# Altium schematic symbol library 1886BE5Y.Schlib: 1 symbol
Pins are listed as number, name and electrical type; pins without a type are passive.

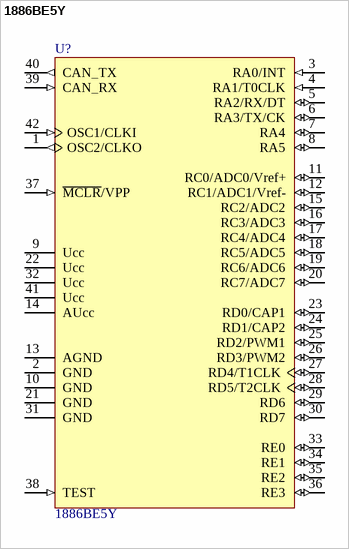
[diagram p0: symbol 1886BE5Y]

## 1886BE5Y
designator U?
Микроконтроллер с CAN; Package Information: Latest Revision: 1997; Published: 8-Jun-2000; Revision: 17-Jul-2002: Re-released for DXP Platform.; Datasheet: Latest Revision: 1997; Package Reference: JW40; Publisher: Altium Limited
footprint H14.42-1B
pins: 1 OSC2/CLKO (out), 2 GND (power), 3 RA0/INT (in), 4 RA1/T0CLK (in), 5 RA2/RX/DT (io), 6 RA3/TX/CK (io), 7 RA4 (io), 8 RA5 (io), 9 Ucc (power), 10 GND (power), 11 RC0/ADC0/Vref+ (io), 12 RC1/ADC1/Vref- (io), 13 AGND (power), 14 AUcc (power), 15 RC2/ADC2 (io), 16 RC3/ADC3 (io), 17 RC4/ADC4 (io), 18 RC5/ADC5 (io), 19 RC6/ADC6 (io), 20 RC7/ADC7 (io), 21 GND (power), 22 Ucc (power), 23 RD0/CAP1 (io), 24 RD1/CAP2 (io), 25 RD2/PWM1 (io), 26 RD3/PWM2 (io), 27 RD4/T1CLK (io), 28 RD5/T2CLK (io), 29 RD6 (io), 30 RD7 (io), 31 GND (power), 32 Ucc (power), 33 RE0 (io), 34 RE1 (io), 35 RE2 (io), 36 RE3 (io), 37 ~{MCLR}/VPP (in), 38 TEST (in), 39 CAN_RX (in), 40 CAN_TX (out), 41 Ucc (power), 42 OSC1/CLKI (in)